# EAGLE library part 618015325323 (library SD-kart)
WR-DSUB Male High Density Angled PCB Connector without Hex Screw, 15 Pins=>Code : Con_I-O_DSUB_PCB_Male_wo-screw_618015325323 <https://katalog.we-online.com/media/images/v2/o33092v209%20Family_WR-DSUB_6180xx325323.jpg> Details see: https://katalog.we-online.com/en/em/DSUB_MALE_HIGH_DENSITY_ANGLED_PCB_CONNECTOR_W_O_HEX_SCREW_6180XX325323 Updated by Ella Wu 2019-03-20 2019 (C) Würth Elektronik
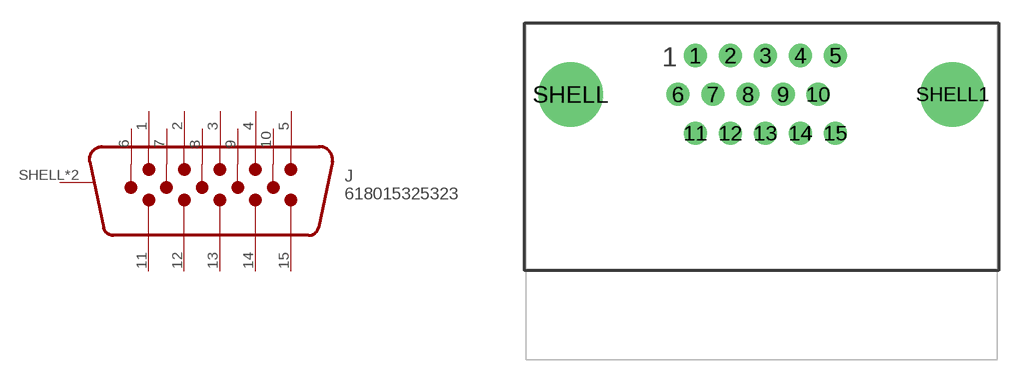
[diagram p42: symbol with the pads of 618015325323; footprint 618015325323]

Designator prefix J

## 618015325323 (WE-NUMBER: 618015325323)  [618015325323]
1  1
2  2
3  3
4  4
5  5
6  6
7  7
8  8
9  9
10  10
11  11
12  12
13  13
14  14
15  15
SHELL  SHIELD
SHELL1  SHIELD

## Footprint 618015325323 (pad centres in mm)
WR-DSUB Male High Density Angled PCB Connector without Hex Screw, 15 Pins
drill 1: 1 -4.326,2.54; 2 -2.036,2.54; 3 0.254,2.54; 4 2.544,2.54; 5 4.834,2.54; 6 -5.466,0; 7 -3.176,0; 8 -0.886,0; 9 1.404,0; 10 3.694,0; 11 -4.326,-2.54; 12 -2.036,-2.54; 13 0.254,-2.54; 14 2.544,-2.54; 15 4.834,-2.54
drill 3.2: SHELL -12.495,0; SHELL1 12.495,0